# Altium integrated library Analog Devices Data Converters Analog-to-Digital Converters.IntLib: 2404 symbols (part 11 of 346)
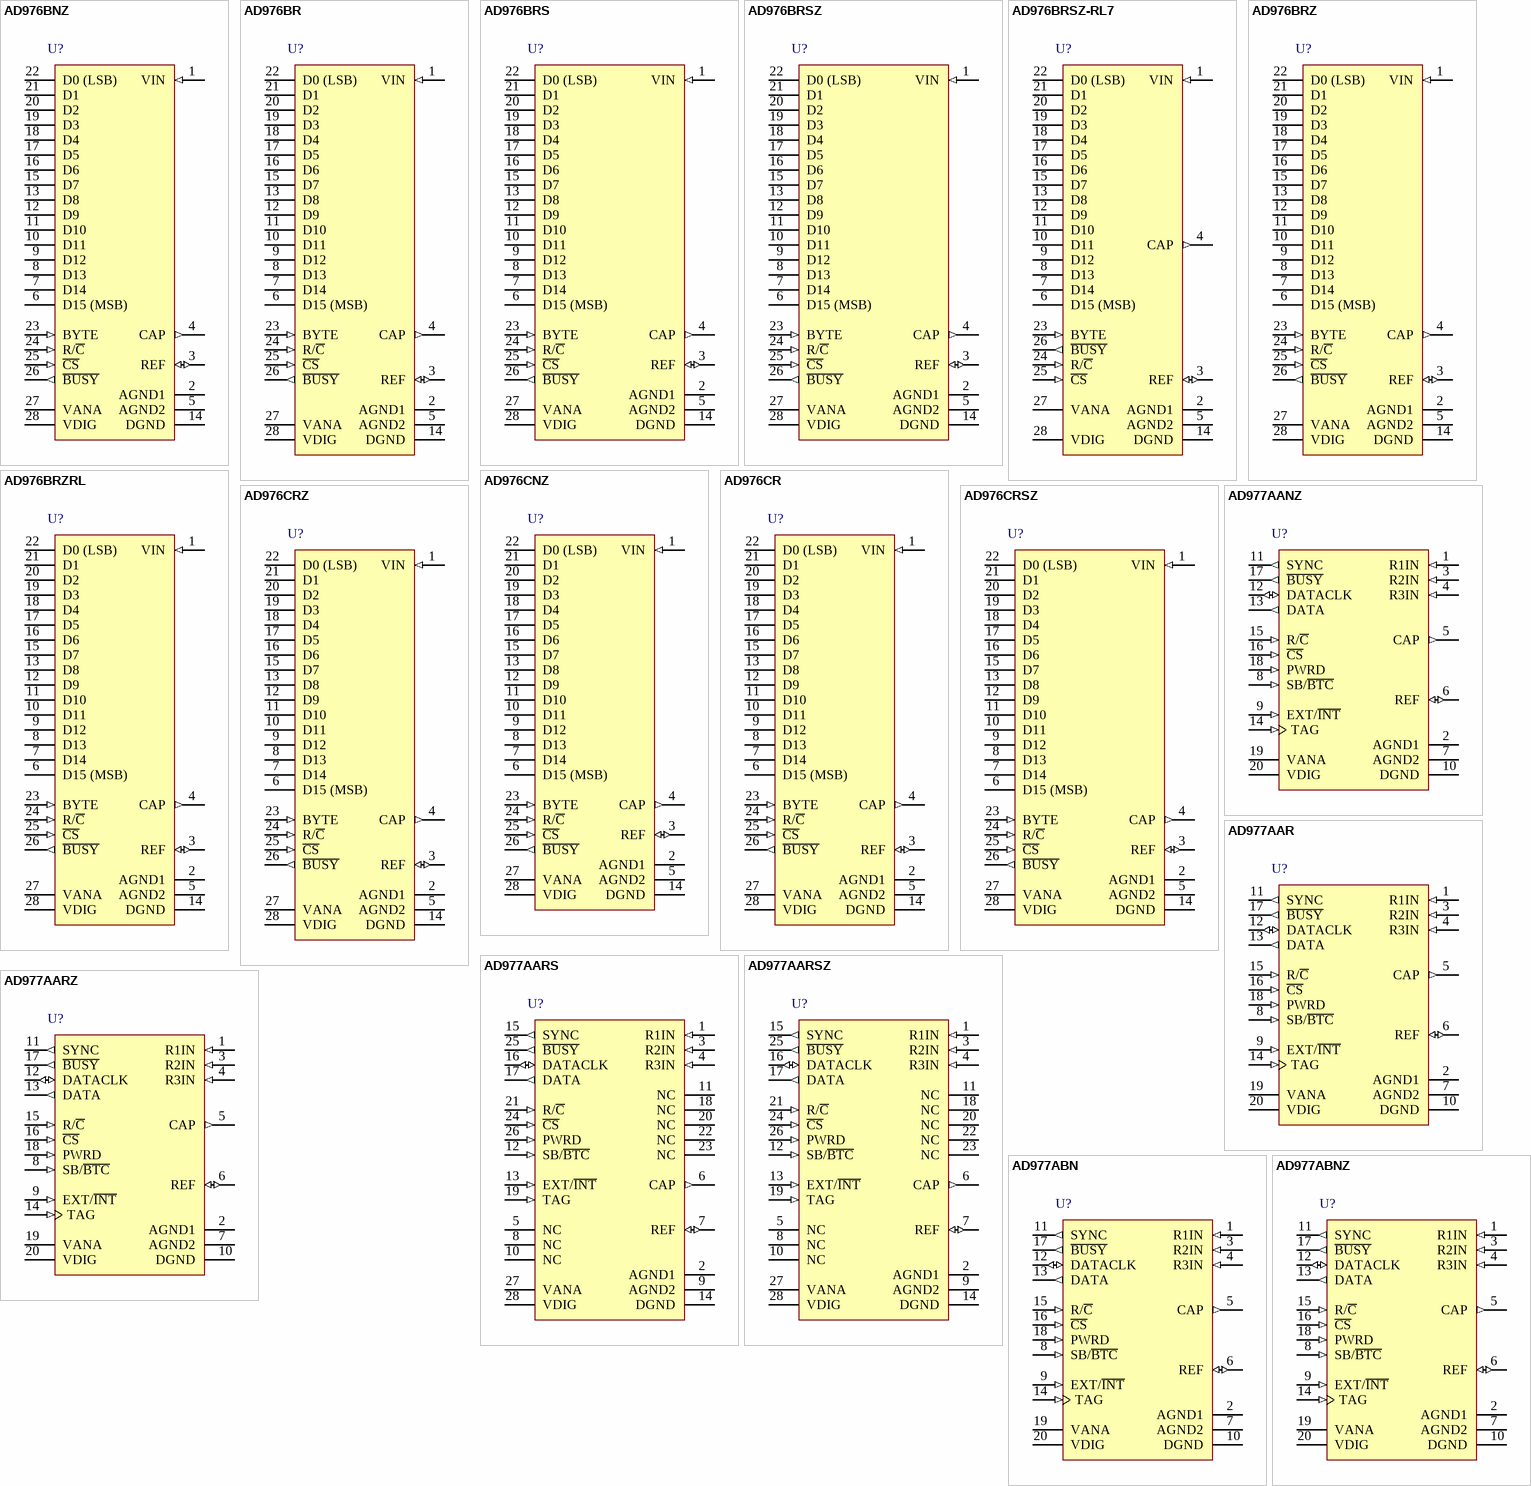
[diagram p161: symbols AD976BNZ to AD977ABNZ]

## AD976BRZ
designator U?
Single 16-Bit BiCMOS Analog-to-Digital Converter with Parallel Interface, CMOS, 100KSPS, -40 to +85 degC, RW-28, Pb-Free, Tube; Generic Part Number: AD976; Manufacturer: Analog Devices; PartNumber: AD976BRZ; Resolution (Bits): 16; Channels: 1; Throughput Rate (SPS): 100K; Interface: Par; DatasheetVersion: Rev.C; PackageVersion: 060706-A; PackageReference: RW-28; PackageDescription: 28-Lead Standard Small Outline Package [SOIC_W]; Supplier 1: Digi-Key; Supplier Part Number 1: AD976BRZ-ND; Supplier 2: Newark; Supplier Part Number 2: 59K7389; Supplier 3: Mouser; Supplier Part Number 3: 584-AD976BRZ; RoHS: Y; Packing: Tube; Mounting Technology: Surface Mount; Code_JEDEC: MS-013-AE; ComponentLink1Description: Manufacturer URL; ComponentLink1URL: http://www.analog.com/en/index.html; ComponentLink2Description: Datasheet; ComponentLink2URL: http://www.analog.com/static/imported-files/data_sheets/AD976_976A.pdf; ComponentLink3Description: Package Specification; ComponentLink3URL: http://www.analog.com/static/imported-files/packages/35833120341221RW_28.pdf; ComponentLink4Description: Product URL; ComponentLink4URL: http://www.analog.com/en/analog-to-digital-converters/ad-converters/ad976/products/product.html
footprint RW-28_N (SOIC, 28-Leads, Body 17.9x7.5mm, Pitch 1.27mm, IPC Medium Density)
footprint RW-28_L (SOIC, 28-Leads, Body 17.9x7.5mm, Pitch 1.27mm, IPC High Density)
footprint RW-28_M (SOIC, 28-Leads, Body 17.9x7.5mm, Pitch 1.27mm, IPC Low Density)
pins: 1 VIN (in) "Analog Input. Connect a 200 ohm resistor between VIN and the analog signal source. The full-scale input range is +/-10 V.", 2 AGND1 (power) "Analog Ground. Used as the ground reference point for the REF pin.", 3 REF (io) "Reference Input/Output. The internal +2.5 V reference is available at this pin. Alternatively, an external reference can be used to override the internal reference. In either case, connect a 2.2 uf tantalum capacitor between (See Datasheet)", 4 CAP (out) "Reference Buffer Output. Connect a 2.2 uF tantalum capacitor between CAP and AGND2.", 5 AGND2 (power) "Analog Ground.", 6 D15 (MSB) (hiz) "Data Bit 15. Most significant bit of conversion result. High impedance state when C\S\ is HIGH or when R/C\ is LOW.", 7 D14 (hiz) "Data Bits 14-8. High impedance state when C\S\ is HIGH or when R/C\ is LOW.", 8 D13 (hiz) "Data Bits 14-8. High impedance state when C\S\ is HIGH or when R/C\ is LOW.", 9 D12 (hiz) "Data Bits 14-8. High impedance state when C\S\ is HIGH or when R/C\ is LOW.", 10 D11 (hiz) "Data Bits 14-8. High impedance state when C\S\ is HIGH or when R/C\ is LOW.", 11 D10 (hiz) "Data Bits 14-8. High impedance state when C\S\ is HIGH or when R/C\ is LOW.", 12 D9 (hiz) "Data Bits 14-8. High impedance state when C\S\ is HIGH or when R/C\ is LOW.", 13 D8 (hiz) "Data Bits 14-8. High impedance state when C\S\ is HIGH or when R/C\ is LOW.", 14 DGND (power) "Digital Ground.", 15 D7 (hiz) "Data Bits 7-1. High impedance state when C\S\ is HIGH or when R/C\ is LOW.", 16 D6 (hiz) "Data Bits 7-1. High impedance state when C\S\ is HIGH or when R/C\ is LOW.", 17 D5 (hiz) "Data Bits 7-1. High impedance state when C\S\ is HIGH or when R/C\ is LOW.", 18 D4 (hiz) "Data Bits 7-1. High impedance state when C\S\ is HIGH or when R/C\ is LOW.", 19 D3 (hiz) "Data Bits 7-1. High impedance state when C\S\ is HIGH or when R/C\ is LOW.", 20 D2 (hiz) "Data Bits 7-1. High impedance state when C\S\ is HIGH or when R/C\ is LOW.", 21 D1 (hiz) "Data Bits 7-1. High impedance state when C\S\ is HIGH or when R/C\ is LOW.", 22 D0 (LSB) (hiz) "Data Bit 0. Least significant bit of conversion result. High impedance state when C\S\ is HIGH or when R/C\ is LOW.", 23 BYTE (in) "Byte Select. With BYTE LOW, data will be output as indicated above; Pin 6 (D15) is the MSB, Pin 22 (D0) is the LSB. With BYTE HIGH, the top and bottom 8 bits of data will be switched; D15-D8 are output on Pins 15-22 and (See Datasheet)", 24 R/~{C} (in) "Read/Convert Input. With C\S\ LOW, a falling edge on R/C\ puts the internal sample/hold into the hold state and starts a conversion; a rising edge enables the output data bits.", 25 ~{CS} (in) "Chip Select Input. Internally OR’d with R/C\. With R/C\ LOW, a falling edge on C\S\ will initiate a conversion. With R/C\ HIGH, a falling edge on C\S\ will enable the output data bits. When C\S\ is HIGH, the output data bits (See Datasheet)", 26 ~{BUSY} (out) "Busy Output. Goes LOW when a conversion is started and remains LOW until the conversion is completed and the data is latched into the output register. With C\S\ tied LOW and R/C\ HIGH, output data will be valid when B\U\S\Y\ (See Datasheet)", 27 VANA (power) "Analog Power Supply. Nominally +5 V.", 28 VDIG (power) "Digital Power Supply. Nominally +5 V."

## AD976BRZRL
designator U?
Single 16-Bit BiCMOS Analog-to-Digital Converter with Parallel Interface, CMOS, 100KSPS, -40 to +85 degC, RW-28, Pb-Free, Reel; Generic Part Number: AD976; Manufacturer: Analog Devices; PartNumber: AD976BRZRL; Resolution (Bits): 16; Channels: 1; Throughput Rate (SPS): 100K; Interface: Par; DatasheetVersion: Rev.C; PackageVersion: 060706-A; PackageReference: RW-28; PackageDescription: 28-Lead Standard Small Outline Package [SOIC_W]; Supplier 1: Digi-Key; Supplier Part Number 1: AD976BRZRL-ND; RoHS: Y; Packing: Reel; Mounting Technology: Surface Mount; Code_JEDEC: MS-013-AE; ComponentLink1Description: Manufacturer URL; ComponentLink1URL: http://www.analog.com/en/index.html; ComponentLink2Description: Datasheet; ComponentLink2URL: http://www.analog.com/static/imported-files/data_sheets/AD976_976A.pdf; ComponentLink3Description: Package Specification; ComponentLink3URL: http://www.analog.com/static/imported-files/packages/35833120341221RW_28.pdf; ComponentLink4Description: Product URL; ComponentLink4URL: http://www.analog.com/en/analog-to-digital-converters/ad-converters/ad976/products/product.html
footprint RW-28_N (SOIC, 28-Leads, Body 17.9x7.5mm, Pitch 1.27mm, IPC Medium Density)
footprint RW-28_L (SOIC, 28-Leads, Body 17.9x7.5mm, Pitch 1.27mm, IPC High Density)
footprint RW-28_M (SOIC, 28-Leads, Body 17.9x7.5mm, Pitch 1.27mm, IPC Low Density)
pins: 1 VIN (in) "Analog Input. Connect a 200 ohm resistor between VIN and the analog signal source. The full-scale input range is +/-10 V.", 2 AGND1 (power) "Analog Ground. Used as the ground reference point for the REF pin.", 3 REF (io) "Reference Input/Output. The internal +2.5 V reference is available at this pin. Alternatively, an external reference can be used to override the internal reference. In either case, connect a 2.2 uf tantalum capacitor between (See Datasheet)", 4 CAP (out) "Reference Buffer Output. Connect a 2.2 uF tantalum capacitor between CAP and AGND2.", 5 AGND2 (power) "Analog Ground.", 6 D15 (MSB) (hiz) "Data Bit 15. Most significant bit of conversion result. High impedance state when C\S\ is HIGH or when R/C\ is LOW.", 7 D14 (hiz) "Data Bits 14-8. High impedance state when C\S\ is HIGH or when R/C\ is LOW.", 8 D13 (hiz) "Data Bits 14-8. High impedance state when C\S\ is HIGH or when R/C\ is LOW.", 9 D12 (hiz) "Data Bits 14-8. High impedance state when C\S\ is HIGH or when R/C\ is LOW.", 10 D11 (hiz) "Data Bits 14-8. High impedance state when C\S\ is HIGH or when R/C\ is LOW.", 11 D10 (hiz) "Data Bits 14-8. High impedance state when C\S\ is HIGH or when R/C\ is LOW.", 12 D9 (hiz) "Data Bits 14-8. High impedance state when C\S\ is HIGH or when R/C\ is LOW.", 13 D8 (hiz) "Data Bits 14-8. High impedance state when C\S\ is HIGH or when R/C\ is LOW.", 14 DGND (power) "Digital Ground.", 15 D7 (hiz) "Data Bits 7-1. High impedance state when C\S\ is HIGH or when R/C\ is LOW.", 16 D6 (hiz) "Data Bits 7-1. High impedance state when C\S\ is HIGH or when R/C\ is LOW.", 17 D5 (hiz) "Data Bits 7-1. High impedance state when C\S\ is HIGH or when R/C\ is LOW.", 18 D4 (hiz) "Data Bits 7-1. High impedance state when C\S\ is HIGH or when R/C\ is LOW.", 19 D3 (hiz) "Data Bits 7-1. High impedance state when C\S\ is HIGH or when R/C\ is LOW.", 20 D2 (hiz) "Data Bits 7-1. High impedance state when C\S\ is HIGH or when R/C\ is LOW.", 21 D1 (hiz) "Data Bits 7-1. High impedance state when C\S\ is HIGH or when R/C\ is LOW.", 22 D0 (LSB) (hiz) "Data Bit 0. Least significant bit of conversion result. High impedance state when C\S\ is HIGH or when R/C\ is LOW.", 23 BYTE (in) "Byte Select. With BYTE LOW, data will be output as indicated above; Pin 6 (D15) is the MSB, Pin 22 (D0) is the LSB. With BYTE HIGH, the top and bottom 8 bits of data will be switched; D15-D8 are output on Pins 15-22 and (See Datasheet)", 24 R/~{C} (in) "Read/Convert Input. With C\S\ LOW, a falling edge on R/C\ puts the internal sample/hold into the hold state and starts a conversion; a rising edge enables the output data bits.", 25 ~{CS} (in) "Chip Select Input. Internally OR’d with R/C\. With R/C\ LOW, a falling edge on C\S\ will initiate a conversion. With R/C\ HIGH, a falling edge on C\S\ will enable the output data bits. When C\S\ is HIGH, the output data bits (See Datasheet)", 26 ~{BUSY} (out) "Busy Output. Goes LOW when a conversion is started and remains LOW until the conversion is completed and the data is latched into the output register. With C\S\ tied LOW and R/C\ HIGH, output data will be valid when B\U\S\Y\ (See Datasheet)", 27 VANA (power) "Analog Power Supply. Nominally +5 V.", 28 VDIG (power) "Digital Power Supply. Nominally +5 V."

## AD976CNZ
designator U?
Single 16-Bit BiCMOS Analog-to-Digital Converter with Parallel Interface, CMOS, 100KSPS, -40 to +85 degC, N-28-1, Pb-Free, Tube; Generic Part Number: AD976; Manufacturer: Analog Devices; PartNumber: AD976CNZ; Resolution (Bits): 16; Channels: 1; Throughput Rate (SPS): 100K; Interface: Par; DatasheetVersion: Rev.C; PackageVersion: 071106-A; PackageReference: N-28-1; PackageDescription: 28-Lead Plastic Dual In-Line Package [PDIP]; Supplier 1: Digi-Key; Supplier Part Number 1: AD976CNZ-ND; Supplier 2: Newark; Supplier Part Number 2: 59K7391; Supplier 3: Mouser; Supplier Part Number 3: 584-AD976CNZ; RoHS: Y; Packing: Tube; Mounting Technology: Through-hole; Code_JEDEC: MO-095; ComponentLink1Description: Manufacturer URL; ComponentLink1URL: http://www.analog.com/en/index.html; ComponentLink2Description: Datasheet; ComponentLink2URL: http://www.analog.com/static/imported-files/data_sheets/AD976_976A.pdf; ComponentLink3Description: Package Specification; ComponentLink3URL: http://www.analog.com/static/imported-files/packages/70961940N_28_1.pdf; ComponentLink4Description: Product URL; ComponentLink4URL: http://www.analog.com/en/analog-to-digital-converters/ad-converters/ad976/products/product.html
footprint N-28-1 (DIP, 28-Leads, Row Spacing 7.62mm, Pitch 2.54mm, Body 34.7x7.2mm)
pins: 1 VIN (in) "Analog Input. Connect a 200 ohm resistor between VIN and the analog signal source. The full-scale input range is +/-10 V.", 2 AGND1 (power) "Analog Ground. Used as the ground reference point for the REF pin.", 3 REF (io) "Reference Input/Output. The internal +2.5 V reference is available at this pin. Alternatively, an external reference can be used to override the internal reference. In either case, connect a 2.2 uf tantalum capacitor between (See Datasheet)", 4 CAP (out) "Reference Buffer Output. Connect a 2.2 uF tantalum capacitor between CAP and AGND2.", 5 AGND2 (power) "Analog Ground.", 6 D15 (MSB) (hiz) "Data Bit 15. Most significant bit of conversion result. High impedance state when C\S\ is HIGH or when R/C\ is LOW.", 7 D14 (hiz) "Data Bits 14. High impedance state when C\S\ is HIGH or when R/C\ is LOW.", 8 D13 (hiz) "Data Bits 13. High impedance state when C\S\ is HIGH or when R/C\ is LOW.", 9 D12 (hiz) "Data Bits 12. High impedance state when C\S\ is HIGH or when R/C\ is LOW.", 10 D11 (hiz) "Data Bits 11. High impedance state when C\S\ is HIGH or when R/C\ is LOW.", 11 D10 (hiz) "Data Bits 10. High impedance state when C\S\ is HIGH or when R/C\ is LOW.", 12 D9 (hiz) "Data Bits 9. High impedance state when C\S\ is HIGH or when R/C\ is LOW.", 13 D8 (hiz) "Data Bits 8. High impedance state when C\S\ is HIGH or when R/C\ is LOW.", 14 DGND (power) "Digital Ground.", 15 D7 (hiz) "Data Bits 7. High impedance state when C\S\ is HIGH or when R/C\ is LOW.", 16 D6 (hiz) "Data Bits 6. High impedance state when C\S\ is HIGH or when R/C\ is LOW.", 17 D5 (hiz) "Data Bits 5. High impedance state when C\S\ is HIGH or when R/C\ is LOW.", 18 D4 (hiz) "Data Bits 4. High impedance state when C\S\ is HIGH or when R/C\ is LOW.", 19 D3 (hiz) "Data Bits 3. High impedance state when C\S\ is HIGH or when R/C\ is LOW.", 20 D2 (hiz) "Data Bits 2. High impedance state when C\S\ is HIGH or when R/C\ is LOW.", 21 D1 (hiz) "Data Bits 1. High impedance state when C\S\ is HIGH or when R/C\ is LOW.", 22 D0 (LSB) (hiz) "Data Bit 0. Least significant bit of conversion result. High impedance state when C\S\ is HIGH or when R/C\ is LOW.", 23 BYTE (in) "Byte Select. With BYTE LOW, data will be output as indicated above; Pin 6 (D15) is the MSB, Pin 22 (D0) is the LSB. With BYTE HIGH, the top and bottom 8 bits of data will be switched; D15-D8 are output on Pins 15-22 and (See Datasheet)", 24 R/~{C} (in) "Read/Convert Input. With C\S\ LOW, a falling edge on R/C\ puts the internal sample/hold into the hold state and starts a conversion; a rising edge enables the output data bits.", 25 ~{CS} (in) "Chip Select Input. Internally OR’d with R/C\. With R/C\ LOW, a falling edge on C\S\ will initiate a conversion. With R/C\ HIGH, a falling edge on C\S\ will enable the output data bits. When C\S\ is HIGH, the output data bits (See Datasheet)", 26 ~{BUSY} (out) "Busy Output. Goes LOW when a conversion is started and remains LOW until the conversion is completed and the data is latched into the output register. With C\S\ tied LOW and R/C\ HIGH, output data will be valid when B\U\S\Y\ (See Datasheet)", 27 VANA (power) "Analog Power Supply. Nominally +5 V.", 28 VDIG (power) "Digital Power Supply. Nominally +5 V."

## AD976CR
designator U?
Single 16-Bit BiCMOS Analog-to-Digital Converter with Parallel Interface, CMOS, 100KSPS, -40 to +85 degC, RW-28, Tube; Generic Part Number: AD976; Manufacturer: Analog Devices; PartNumber: AD976CR; Resolution (Bits): 16; Channels: 1; Throughput Rate (SPS): 100K; Interface: Par; DatasheetVersion: Rev.C; PackageVersion: 060706-A; PackageReference: RW-28; PackageDescription: 28-Lead Standard Small Outline Package [SOIC_W]; Supplier 1: Digi-Key; Supplier Part Number 1: AD976CR-ND; Supplier 2: Mouser; Supplier Part Number 2: 584-AD976CR; RoHS: N; Packing: Tube; Mounting Technology: Surface Mount; Code_JEDEC: MS-013-AE; ComponentLink1Description: Manufacturer URL; ComponentLink1URL: http://www.analog.com/en/index.html; ComponentLink2Description: Datasheet; ComponentLink2URL: http://www.analog.com/static/imported-files/data_sheets/AD976_976A.pdf; ComponentLink3Description: Package Specification; ComponentLink3URL: http://www.analog.com/static/imported-files/packages/35833120341221RW_28.pdf; ComponentLink4Description: Product URL; ComponentLink4URL: http://www.analog.com/en/analog-to-digital-converters/ad-converters/ad976/products/product.html
footprint RW-28_N (SOIC, 28-Leads, Body 17.9x7.5mm, Pitch 1.27mm, IPC Medium Density)
footprint RW-28_L (SOIC, 28-Leads, Body 17.9x7.5mm, Pitch 1.27mm, IPC High Density)
footprint RW-28_M (SOIC, 28-Leads, Body 17.9x7.5mm, Pitch 1.27mm, IPC Low Density)
pins: 1 VIN (in) "Analog Input. Connect a 200 ohm resistor between VIN and the analog signal source. The full-scale input range is +/-10 V.", 2 AGND1 (power) "Analog Ground. Used as the ground reference point for the REF pin.", 3 REF (io) "Reference Input/Output. The internal +2.5 V reference is available at this pin. Alternatively, an external reference can be used to override the internal reference. In either case, connect a 2.2 uf tantalum capacitor between (See Datasheet)", 4 CAP (out) "Reference Buffer Output. Connect a 2.2 uF tantalum capacitor between CAP and AGND2.", 5 AGND2 (power) "Analog Ground.", 6 D15 (MSB) (hiz) "Data Bit 15. Most significant bit of conversion result. High impedance state when C\S\ is HIGH or when R/C\ is LOW.", 7 D14 (hiz) "Data Bits 14-8. High impedance state when C\S\ is HIGH or when R/C\ is LOW.", 8 D13 (hiz) "Data Bits 14-8. High impedance state when C\S\ is HIGH or when R/C\ is LOW.", 9 D12 (hiz) "Data Bits 14-8. High impedance state when C\S\ is HIGH or when R/C\ is LOW.", 10 D11 (hiz) "Data Bits 14-8. High impedance state when C\S\ is HIGH or when R/C\ is LOW.", 11 D10 (hiz) "Data Bits 14-8. High impedance state when C\S\ is HIGH or when R/C\ is LOW.", 12 D9 (hiz) "Data Bits 14-8. High impedance state when C\S\ is HIGH or when R/C\ is LOW.", 13 D8 (hiz) "Data Bits 14-8. High impedance state when C\S\ is HIGH or when R/C\ is LOW.", 14 DGND (power) "Digital Ground.", 15 D7 (hiz) "Data Bits 7-1. High impedance state when C\S\ is HIGH or when R/C\ is LOW.", 16 D6 (hiz) "Data Bits 7-1. High impedance state when C\S\ is HIGH or when R/C\ is LOW.", 17 D5 (hiz) "Data Bits 7-1. High impedance state when C\S\ is HIGH or when R/C\ is LOW.", 18 D4 (hiz) "Data Bits 7-1. High impedance state when C\S\ is HIGH or when R/C\ is LOW.", 19 D3 (hiz) "Data Bits 7-1. High impedance state when C\S\ is HIGH or when R/C\ is LOW.", 20 D2 (hiz) "Data Bits 7-1. High impedance state when C\S\ is HIGH or when R/C\ is LOW.", 21 D1 (hiz) "Data Bits 7-1. High impedance state when C\S\ is HIGH or when R/C\ is LOW.", 22 D0 (LSB) (hiz) "Data Bit 0. Least significant bit of conversion result. High impedance state when C\S\ is HIGH or when R/C\ is LOW.", 23 BYTE (in) "Byte Select. With BYTE LOW, data will be output as indicated above; Pin 6 (D15) is the MSB, Pin 22 (D0) is the LSB. With BYTE HIGH, the top and bottom 8 bits of data will be switched; D15-D8 are output on Pins 15-22 and (See Datasheet)", 24 R/~{C} (in) "Read/Convert Input. With C\S\ LOW, a falling edge on R/C\ puts the internal sample/hold into the hold state and starts a conversion; a rising edge enables the output data bits.", 25 ~{CS} (in) "Chip Select Input. Internally OR’d with R/C\. With R/C\ LOW, a falling edge on C\S\ will initiate a conversion. With R/C\ HIGH, a falling edge on C\S\ will enable the output data bits. When C\S\ is HIGH, the output data bits (See Datasheet)", 26 ~{BUSY} (out) "Busy Output. Goes LOW when a conversion is started and remains LOW until the conversion is completed and the data is latched into the output register. With C\S\ tied LOW and R/C\ HIGH, output data will be valid when B\U\S\Y\ (See Datasheet)", 27 VANA (power) "Analog Power Supply. Nominally +5 V.", 28 VDIG (power) "Digital Power Supply. Nominally +5 V."

## AD976CRSZ
designator U?
Single 16-Bit BiCMOS Analog-to-Digital Converter with Parallel Interface, CMOS, 100KSPS, -40 to +85 degC, RS-28, Pb-Free, Tube; Generic Part Number: AD976; Manufacturer: Analog Devices; PartNumber: AD976CRSZ; Resolution (Bits): 16; Channels: 1; Throughput Rate (SPS): 100K; Interface: Par; DatasheetVersion: Rev.C; PackageVersion: 060106-A; PackageReference: RS-28; PackageDescription: 28-Lead Shrink Small Outline Package [SSOP]; Supplier 1: Digi-Key; Supplier Part Number 1: AD976CRSZ-ND; Supplier 2: Mouser; Supplier Part Number 2: 584-AD976CRSZ; RoHS: Y; Packing: Tube; Mounting Technology: Surface Mount; Code_JEDEC: MO-150-AH; ComponentLink1Description: Manufacturer URL; ComponentLink1URL: http://www.analog.com/en/index.html; ComponentLink2Description: Datasheet; ComponentLink2URL: http://www.analog.com/static/imported-files/data_sheets/AD976_976A.pdf; ComponentLink3Description: Package Specification; ComponentLink3URL: http://www.analog.com/static/imported-files/packages/32122249223724RS_28.pdf; ComponentLink4Description: Product URL; ComponentLink4URL: http://www.analog.com/en/analog-to-digital-converters/ad-converters/ad976/products/product.html
footprint RS-28_N (SOP, 28-Leads, Body 10.2x5.3mm, Pitch 0.65mm, IPC Medium Density)
footprint RS-28_L (SOP, 28-Leads, Body 10.2x5.3mm, Pitch 0.65mm, IPC High Density)
footprint RS-28_M (SOP, 28-Leads, Body 10.2x5.3mm, Pitch 0.65mm, IPC Low Density)
pins: 1 VIN (in) "Analog Input. Connect a 200 ohm resistor between VIN and the analog signal source. The full-scale input range is +/-10 V.", 2 AGND1 (power) "Analog Ground. Used as the ground reference point for the REF pin.", 3 REF (io) "Reference Input/Output. The internal +2.5 V reference is available at this pin. Alternatively, an external reference can be used to override the internal reference. In either case, connect a 2.2 uF tantalum capacitor between (See Datasheet)", 4 CAP (out) "Reference Buffer Output. Connect a 2.2 uF tantalum capacitor between CAP and AGND2.", 5 AGND2 (power) "Analog Ground.", 6 D15 (MSB) (hiz) "Data Bit 15. Most significant bit of conversion result. High impedance state when C\S\ is HIGH or when R/C\ is LOW.", 7 D14 (hiz) "Data Bits 14. High impedance state when C\S\ is HIGH or when R/C\ is LOW.", 8 D13 (hiz) "Data Bits 13. High impedance state when C\S\ is HIGH or when R/C\ is LOW.", 9 D12 (hiz) "Data Bits 12. High impedance state when C\S\ is HIGH or when R/C\ is LOW.", 10 D11 (hiz) "Data Bits 11. High impedance state when C\S\ is HIGH or when R/C\ is LOW.", 11 D10 (hiz) "Data Bits 10. High impedance state when C\S\ is HIGH or when R/C\ is LOW.", 12 D9 (hiz) "Data Bits 9. High impedance state when C\S\ is HIGH or when R/C\ is LOW.", 13 D8 (hiz) "Data Bits 8. High impedance state when C\S\ is HIGH or when R/C\ is LOW.", 14 DGND (power) "Digital Ground.", 15 D7 (hiz) "Data Bits 7. High impedance state when C\S\ is HIGH or when R/C\ is LOW.", 16 D6 (hiz) "Data Bits 6. High impedance state when C\S\ is HIGH or when R/C\ is LOW.", 17 D5 (hiz) "Data Bits 5. High impedance state when C\S\ is HIGH or when R/C\ is LOW.", 18 D4 (hiz) "Data Bits 4. High impedance state when C\S\ is HIGH or when R/C\ is LOW.", 19 D3 (hiz) "Data Bits 3. High impedance state when C\S\ is HIGH or when R/C\ is LOW.", 20 D2 (hiz) "Data Bits 2. High impedance state when C\S\ is HIGH or when R/C\ is LOW.", 21 D1 (hiz) "Data Bits 1. High impedance state when C\S\ is HIGH or when R/C\ is LOW.", 22 D0 (LSB) (hiz) "Data Bit 0. Least significant bit of conversion result. High impedance state when C\S\ is HIGH or when R/C\ is LOW.", 23 BYTE (in) "Byte Select. With BYTE LOW, data will be output as indicated above; Pin 6 (D15) is the MSB, Pin 22 (D0) is the LSB. With BYTE HIGH, the top and bottom 8 bits of data will be switched; D15-D8 are output on Pins 15-22 and (See Datasheet)", 24 R/~{C} (in) "Read/Convert Input. With C\S\ LOW, a falling edge on R/C\ puts the internal sample/hold into the hold state and starts a conversion; a rising edge enables the output data bits.", 25 ~{CS} (in) "Chip Select Input. Internally OR'd with R/C\. With R/C\ LOW, a falling edge on C\S\ will initiate a conversion. With R/C\ HIGH, a falling edge on C\S\ will enable the output data bits. When C\S\ is HIGH, the output data bits (See Datasheet)", 26 ~{BUSY} (out) "Busy Output. Goes LOW when a conversion is started and remains LOW until the conversion is completed and the data is latched into the output register. With C\S\ tied LOW and R/C\ HIGH, output data will be valid when B\U\S\Y\ (See Datasheet)", 27 VANA (power) "Analog Power Supply. Nominally +5 V.", 28 VDIG (power) "Digital Power Supply. Nominally +5 V."

## AD976CRZ
designator U?
Single 16-Bit BiCMOS Analog-to-Digital Converter with Parallel Interface, CMOS, 100KSPS, -40 to +85 degC, RW-28, Pb-Free, Tube; Generic Part Number: AD976; Manufacturer: Analog Devices; PartNumber: AD976CRZ; Resolution (Bits): 16; Channels: 1; Throughput Rate (SPS): 100K; Interface: Par; DatasheetVersion: Rev.C; PackageVersion: 060706-A; PackageReference: RW-28; PackageDescription: 28-Lead Standard Small Outline Package [SOIC_W]; Supplier 1: Digi-Key; Supplier Part Number 1: AD976CRZ-ND; Supplier 2: Mouser; Supplier Part Number 2: 584-AD976CRZ; RoHS: Y; Packing: Tube; Mounting Technology: Surface Mount; Code_JEDEC: MS-013-AE; ComponentLink1Description: Manufacturer URL; ComponentLink1URL: http://www.analog.com/en/index.html; ComponentLink2Description: Datasheet; ComponentLink2URL: http://www.analog.com/static/imported-files/data_sheets/AD976_976A.pdf; ComponentLink3Description: Package Specification; ComponentLink3URL: http://www.analog.com/static/imported-files/packages/35833120341221RW_28.pdf; ComponentLink4Description: Product URL; ComponentLink4URL: http://www.analog.com/en/analog-to-digital-converters/ad-converters/ad976/products/product.html
footprint RW-28_N (SOIC, 28-Leads, Body 17.9x7.5mm, Pitch 1.27mm, IPC Medium Density)
footprint RW-28_L (SOIC, 28-Leads, Body 17.9x7.5mm, Pitch 1.27mm, IPC High Density)
footprint RW-28_M (SOIC, 28-Leads, Body 17.9x7.5mm, Pitch 1.27mm, IPC Low Density)
pins: 1 VIN (in) "Analog Input. Connect a 200 ohm resistor between VIN and the analog signal source. The full-scale input range is +/-10 V.", 2 AGND1 (power) "Analog Ground. Used as the ground reference point for the REF pin.", 3 REF (io) "Reference Input/Output. The internal +2.5 V reference is available at this pin. Alternatively, an external reference can be used to override the internal reference. In either case, connect a 2.2 uf tantalum capacitor between (See Datasheet)", 4 CAP (out) "Reference Buffer Output. Connect a 2.2 uF tantalum capacitor between CAP and AGND2.", 5 AGND2 (power) "Analog Ground.", 6 D15 (MSB) (hiz) "Data Bit 15. Most significant bit of conversion result. High impedance state when C\S\ is HIGH or when R/C\ is LOW.", 7 D14 (hiz) "Data Bits 14-8. High impedance state when C\S\ is HIGH or when R/C\ is LOW.", 8 D13 (hiz) "Data Bits 14-8. High impedance state when C\S\ is HIGH or when R/C\ is LOW.", 9 D12 (hiz) "Data Bits 14-8. High impedance state when C\S\ is HIGH or when R/C\ is LOW.", 10 D11 (hiz) "Data Bits 14-8. High impedance state when C\S\ is HIGH or when R/C\ is LOW.", 11 D10 (hiz) "Data Bits 14-8. High impedance state when C\S\ is HIGH or when R/C\ is LOW.", 12 D9 (hiz) "Data Bits 14-8. High impedance state when C\S\ is HIGH or when R/C\ is LOW.", 13 D8 (hiz) "Data Bits 14-8. High impedance state when C\S\ is HIGH or when R/C\ is LOW.", 14 DGND (power) "Digital Ground.", 15 D7 (hiz) "Data Bits 7-1. High impedance state when C\S\ is HIGH or when R/C\ is LOW.", 16 D6 (hiz) "Data Bits 7-1. High impedance state when C\S\ is HIGH or when R/C\ is LOW.", 17 D5 (hiz) "Data Bits 7-1. High impedance state when C\S\ is HIGH or when R/C\ is LOW.", 18 D4 (hiz) "Data Bits 7-1. High impedance state when C\S\ is HIGH or when R/C\ is LOW.", 19 D3 (hiz) "Data Bits 7-1. High impedance state when C\S\ is HIGH or when R/C\ is LOW.", 20 D2 (hiz) "Data Bits 7-1. High impedance state when C\S\ is HIGH or when R/C\ is LOW.", 21 D1 (hiz) "Data Bits 7-1. High impedance state when C\S\ is HIGH or when R/C\ is LOW.", 22 D0 (LSB) (hiz) "Data Bit 0. Least significant bit of conversion result. High impedance state when C\S\ is HIGH or when R/C\ is LOW.", 23 BYTE (in) "Byte Select. With BYTE LOW, data will be output as indicated above; Pin 6 (D15) is the MSB, Pin 22 (D0) is the LSB. With BYTE HIGH, the top and bottom 8 bits of data will be switched; D15-D8 are output on Pins 15-22 and (See Datasheet)", 24 R/~{C} (in) "Read/Convert Input. With C\S\ LOW, a falling edge on R/C\ puts the internal sample/hold into the hold state and starts a conversion; a rising edge enables the output data bits.", 25 ~{CS} (in) "Chip Select Input. Internally OR’d with R/C\. With R/C\ LOW, a falling edge on C\S\ will initiate a conversion. With R/C\ HIGH, a falling edge on C\S\ will enable the output data bits. When C\S\ is HIGH, the output data bits (See Datasheet)", 26 ~{BUSY} (out) "Busy Output. Goes LOW when a conversion is started and remains LOW until the conversion is completed and the data is latched into the output register. With C\S\ tied LOW and R/C\ HIGH, output data will be valid when B\U\S\Y\ (See Datasheet)", 27 VANA (power) "Analog Power Supply. Nominally +5 V.", 28 VDIG (power) "Digital Power Supply. Nominally +5 V."

## AD977AANZ
designator U?
Single 16-Bit BiCMOS Analog-to-Digital Converter with Serial Interface, 200KSPS, -40 to +85 degC, N-20, Pb-Free, Tube; Generic Part Number: AD977A; Manufacturer: Analog Devices; PartNumber: AD977AANZ; Resolution (Bits): 16; Channels: 1; Throughput Rate (SPS): 200K; Interface: Ser; DatasheetVersion: Rev.D; PackageVersion: 070706-A; PackageReference: N-20; PackageDescription: 20-Lead Plastic Dual In-Line Package [PDIP] Narrow Body; Supplier 1: Digi-Key; Supplier Part Number 1: AD977AANZ-ND; Supplier 2: Farnell; Supplier Part Number 2: 1079310; Supplier 3: Mouser; Supplier Part Number 3: 584-AD977AANZ; RoHS: Y; Packing: Tube; Mounting Technology: Through-hole; Code_JEDEC: MS-001; ComponentLink1Description: Manufacturer URL; ComponentLink1URL: http://www.analog.com/en/index.html; ComponentLink2Description: Datasheet; ComponentLink2URL: http://www.analog.com/static/imported-files/data_sheets/AD977_977A.pdf; ComponentLink3Description: Package Specification; ComponentLink3URL: http://www.analog.com/static/imported-files/packages/50601349676519N_20.pdf; ComponentLink4Description: Product URL; ComponentLink4URL: http://www.analog.com/en/analog-to-digital-converters/ad-converters/ad977a/products/product.html
footprint N-20 (DIP, 20-Leads, Row Spacing 7.62mm, Pitch 2.54mm, Body 25.9x6.6mm)
pins: 1 R1IN (in) "Analog Input. Refer to Table I, Table II for input range configuration.", 2 AGND1 (power) "Analog Ground. Used as the ground reference point for the REF pin.", 3 R2IN (in) "Analog Input. Refer to Table I, Table II for input range configuration.", 4 R3IN (in) "Analog Input. Refer to Table I, Table II for input range configuration.", 5 CAP (out) "Reference buffer output. Connect a 2.2 uF tantalum capacitor between CAP and Analog Ground.", 6 REF (io) "Reference Input/Output. The internal 2.5 V reference is available at this pin.Alternatively an external reference can be used to override the internal reference. In either case, connect a 2.2 uF tantalum capacitor between (See Datasheet)", 7 AGND2 (power) "Analog Ground.", 8 SB/~{BTC} (in) "This digital input is used to select the data format of a conversion result. With SB/B\T\C\ tied LOW, conversion data will be output in Binary Two's Complement format. With SB/B\T\C\ connected to a logic HIGH, data is output in (See Datasheet)", 9 EXT/~{INT} (in) "Digital select input for choosing the internal or an external data clock. With EXT/I\N\T\ tied LOW, after initiating a conversion, 16 DATACLK pulses transmit the previous conversion result as shown in Figure 3. With EXT/I\N\T\ set (See Datasheet)", 10 DGND (power) "Digital Ground.", 11 SYNC (out) "Digital output frame synchronization for use with an external data clock(EXT/I\N\T\ = Logic HIGH). When a read sequence is initiated, a pulse one DATACLK period wide is output synchronous to the external data clock.", 12 DATACLK (io) "Serial data clock input or output, dependent upon the logic state of the EXT/I\N\T\ pin. When using the internal data clock (EXT/I\N\T\ = Logic LOW), a conversion start sequence will initiate transmission of 16 DATACLK periods. (See Datasheet)", 13 DATA (out) "The serial data output is synchronized to DATACLK. Conversion results are stored in an on-chip register. The AD977 provides the conversion result, MSB first, from its internal shift register. The DATA format is determined by (See Datasheet)", 14 TAG (in) "This digital input can be used with an external data clock, (EXT/I\N\T\ = Logic HIGH) to daisy chain the conversion results from two or more AD977s onto a single DATA line. The digital data level on TAG is output on DATA with a (See Datasheet)", 15 R/~{C} (in) "Read/Convert Input. Is used to control the conversion and read modes of the AD977. With C\S\ LOW; a falling edge on R/C holds the analog input signal internally and starts a conversion, a rising edge enables the transmission (See Datasheet)", 16 ~{CS} (in) "Chip Select Input. With R/C LOW, a falling edge on CS will initiate a conversion.With R/C HIGH, a falling edge on CS will enable the serial data output sequence.", 17 ~{BUSY} (out) "Busy Output. Goes LOW when a conversion is started, and remains LOW until the conversion is completed and the data is latched into the on-chip shift register.", 18 PWRD (in) "Power-Down Input. When set to a logic HIGH power consumption is reduced and conversions are inhibited. The conversion result from the previous conversion is stored in the onboard shift register.", 19 VANA (power) "Analog Power Supply. Nominally 5 V.", 20 VDIG (power) "Digital Power Supply. Nominally 5 V."

## AD977AAR
designator U?
Single 16-Bit BiCMOS Analog-to-Digital Converter with Serial Interface, 200KSPS, -40 to +85 degC, RW-20, Tube; Generic Part Number: AD977A; Manufacturer: Analog Devices; PartNumber: AD977AAR; Resolution (Bits): 16; Channels: 1; Throughput Rate (SPS): 200K; Interface: Ser; DatasheetVersion: Rev.D; PackageVersion: 060706-A; PackageReference: RW-20; PackageDescription: 20-Lead Standard Small Outline Package [SOIC_W] Wide Body; Supplier 1: Digi-Key; Supplier Part Number 1: AD977AAR-ND; Supplier 2: Mouser; Supplier Part Number 2: 584-AD977AAR; RoHS: N; Packing: Tube; Mounting Technology: Surface Mount; Code_JEDEC: MS-013-AC; ComponentLink1Description: Manufacturer URL; ComponentLink1URL: http://www.analog.com/en/index.html; ComponentLink2Description: Datasheet; ComponentLink2URL: http://www.analog.com/static/imported-files/data_sheets/AD977_977A.pdf; ComponentLink3Description: Package Specification; ComponentLink3URL: http://www.analog.com/static/imported-files/packages/233848RW_20.pdf; ComponentLink4Description: Product URL; ComponentLink4URL: http://www.analog.com/en/analog-to-digital-converters/ad-converters/ad977a/products/product.html
footprint RW-20_N (SOIC, 20-Leads, Body 12.8x7.5mm, Pitch 1.27mm, IPC Medium Density)
footprint RW-20_L (SOIC, 20-Leads, Body 12.8x7.5mm, Pitch 1.27mm, IPC High Density)
footprint RW-20_M (SOIC, 20-Leads, Body 12.8x7.5mm, Pitch 1.27mm, IPC Low Density)
pins: 1 R1IN (in) "Analog Input. Refer to Table I, Table II for input range configuration.", 2 AGND1 (power) "Analog Ground. Used as the ground reference point for the REF pin.", 3 R2IN (in) "Analog Input. Refer to Table I, Table II for input range configuration.", 4 R3IN (in) "Analog Input. Refer to Table I, Table II for input range configuration.", 5 CAP (out) "Reference buffer output. Connect a 2.2 uF tantalum capacitor between CAP and Analog Ground.", 6 REF (io) "Reference Input/Output. The internal 2.5 V reference is available at this pin.Alternatively an external reference can be used to override the internal reference. In either case, connect a 2.2 uF tantalum capacitor between (See Datasheet)", 7 AGND2 (power) "Analog Ground.", 8 SB/~{BTC} (in) "This digital input is used to select the data format of a conversion result. With SB/B\T\C\ tied LOW, conversion data will be output in Binary Two’s Complement format. With SB/B\T\C\  connected to a logic HIGH, data is (See Datasheet)", 9 EXT/~{INT} (in) "Digital select input for choosing the internal or an external data clock. With EXT/I\N\T\ tied LOW, after initiating a conversion, 16 DATACLK pulses transmit the previous conversion result as shown in Figure 3. With EXT/INT (See Datasheet)", 10 DGND (power) "Digital Ground.", 11 SYNC (out) "Digital output frame synchronization for use with an external data clock (EXT/I\N\T\ = Logic HIGH). When a read sequence is initiated, a pulse one DATACLK period wide is output synchronous to the external data clock.", 12 DATACLK (io) "Serial data clock input or output, dependent upon the logic state of the EXT/I\N\T\ pin. When using the internal data clock (EXT/I\N\T\ = Logic LOW), a conversion start sequence will initiate transmission of 16 DATACLK (See Datasheet)", 13 DATA (out) "The serial data output is synchronized to DATACLK. Conversion results are stored in an on-chip register. The AD977 provides the conversion result, MSB first, from its internal shift register. The DATA format is determined by (See Datasheet)", 14 TAG (in) "This digital input can be used with an external data clock, (EXT/I\N\T\ = Logic HIGH) to daisy chain the conversion results from two or more AD977s onto a single DATA line. The digital data level on TAG is output on DATA (See Datasheet)", 15 R/~{C} (in) "Read/Convert Input. Is used to control the conversion and read modes of the AD977. With C\S\ LOW; a falling edge on R/C\ holds the analog input signal internally and starts a conversion, a rising edge enables the (See Datasheet)", 16 ~{CS} (in) "Chip Select Input. With R/C\ LOW, a falling edge on C\S\ will initiate a conversion.With R/C\ HIGH, a falling edge on C\S\ will enable the serial data output sequence.", 17 ~{BUSY} (out) "Busy Output. Goes LOW when a conversion is started, and remains LOW until the conversion is completed and the data is latched into the on-chip shift register.", 18 PWRD (in) "Power-Down Input. When set to a logic HIGH power consumption is reduced and conversions are inhibited. The conversion result from the previous conversion is stored in the onboard shift register.", 19 VANA (power) "Analog Power Supply. Nominally 5 V.", 20 VDIG (power) "Digital Power Supply. Nominally 5 V."

## AD977AARS
designator U?
Single 16-Bit BiCMOS Analog-to-Digital Converter with Serial Interface, 200KSPS, -40 to +85 degC, RS-28, Tube; Generic Part Number: AD977A; Manufacturer: Analog Devices; PartNumber: AD977AARS; Resolution (Bits): 16; Channels: 1; Throughput Rate (SPS): 200K; Interface: Ser; DatasheetVersion: Rev.D; PackageVersion: 060106-A; PackageReference: RS-28; PackageDescription: 28-Lead Shrink Small Outline Package [SSOP]; Supplier 1: Digi-Key; Supplier Part Number 1: AD977AARS-ND; Supplier 2: Mouser; Supplier Part Number 2: 584-AD977AARS; RoHS: N; Packing: Tube; Mounting Technology: Surface Mount; Code_JEDEC: MO-150-AH; ComponentLink1Description: Manufacturer URL; ComponentLink1URL: http://www.analog.com/en/index.html; ComponentLink2Description: Datasheet; ComponentLink2URL: http://www.analog.com/static/imported-files/data_sheets/AD977_977A.pdf; ComponentLink3Description: Package Specification; ComponentLink3URL: http://www.analog.com/static/imported-files/packages/32122249223724RS_28.pdf; ComponentLink4Description: Product URL; ComponentLink4URL: http://www.analog.com/en/analog-to-digital-converters/ad-converters/ad977a/products/product.html
footprint RS-28_N (SOP, 28-Leads, Body 10.2x5.3mm, Pitch 0.65mm, IPC Medium Density)
footprint RS-28_L (SOP, 28-Leads, Body 10.2x5.3mm, Pitch 0.65mm, IPC High Density)
footprint RS-28_M (SOP, 28-Leads, Body 10.2x5.3mm, Pitch 0.65mm, IPC Low Density)
pins: 1 R1IN (in) "Analog Input. Refer to Table I, Table II for input range configuration.", 2 AGND1 (power) "Analog Ground. Used as the ground reference point for the REF pin.", 3 R2IN (in) "Analog Input. Refer to Table I, Table II for input range configuration.", 4 R3IN (in) "Analog Input. Refer to Table I, Table II for input range configuration.", 5 NC "No connect.", 6 CAP (out) "Reference buffer output. Connect a 2.2 uF tantalum capacitor between CAP and Analog Ground.", 7 REF (io) "Reference Input/Output. The internal 2.5 V reference is available at this pin. Alternatively an external reference can be used to override the internal reference. In either case, connect a 2.2 uF tantalum capacitor between (See Datasheet)", 8 NC "No connect.", 9 AGND2 (power) "Analog Ground.", 10 NC "No connect.", 11 NC "No connect.", 12 SB/~{BTC} (in) "This digital input is used to select the data format of a conversion result. With SB/B\T\C\ tied LOW, conversion data will be output in Binary Two’s Complement format. With SB/B\T\C\ connected to a logic HIGH, data is output (See Datasheet)", 13 EXT/~{INT} (in) "Digital select input for choosing the internal or an external data clock. With EXT/I\N\T\ tied LOW, after initiating a conversion, 16 DATACLK pulses transmit the previous conversion result as shown in Figure 3. With (See Datasheet)", 14 DGND (power) "Digital Ground.", 15 SYNC (out) "Digital output frame synchronization for use with an external data clock (EXT/I\N\T\ = Logic HIGH). When a read sequence is initiated, a pulse one DATACLK period wide is output synchronous to the external data clock.", 16 DATACLK (io) "Serial data clock input or output, dependent upon the logic state of the EXT/I\N\T\ pin. When using the internal data clock (EXT/I\N\T\ = Logic LOW), a conversion start sequence will initiate transmission of 16 DATACLK (See Datasheet)", 17 DATA (out) "The serial data output is synchronized to DATACLK. Conversion results are stored in an on-chip register. The AD977 provides the conversion result, MSB first, from its internal shift register. The DATA format is determined by (See Datasheet)", 18 NC "No connect.", 19 TAG (in) "This digital input can be used with an external data clock, (EXT/I\N\T\ = Logic HIGH) to daisy chain the conversion results from two or more AD977s onto a single DATA line. The digital data level on TAG is output on DATA (See Datasheet)", 20 NC "No connect.", 21 R/~{C} (in) "Read/Convert Input. Is used to control the conversion and read modes of the AD977. With C\S\ LOW; a falling edge on R/C\ holds the analog input signal internally and starts a conversion, a rising edge enables the (See Datasheet)", 22 NC "No connect.", 23 NC "No connect.", 24 ~{CS} (in) "Chip Select Input. With R/C\ LOW, a falling edge on C\S\ will initiate a conversion. With R/C\ HIGH, a falling edge on C\S\ will enable the serial data output sequence.", 25 ~{BUSY} (out) "Busy Output. Goes LOW when a conversion is started, and remains LOW until the conversion is completed and the data is latched into the on-chip shift register.", 26 PWRD (in) "Power-Down Input. When set to a logic HIGH power consumption is reduced and conversions are inhibited. The conversion result from the previous conversion is stored in the onboard shift register.", 27 VANA (power) "Analog Power Supply. Nominally 5 V.", 28 VDIG (power) "Digital Power Supply. Nominally 5 V."

## AD977AARSZ
designator U?
Single 16-Bit BiCMOS Analog-to-Digital Converter with Serial Interface, 200KSPS, -40 to +85 degC, RS-28, Pb-Free, Tube; Generic Part Number: AD977A; Manufacturer: Analog Devices; PartNumber: AD977AARSZ; Resolution (Bits): 16; Channels: 1; Throughput Rate (SPS): 200K; Interface: Ser; DatasheetVersion: Rev.D; PackageVersion: 060106-A; PackageReference: RS-28; PackageDescription: 28-Lead Shrink Small Outline Package [SSOP]; Supplier 1: Digi-Key; Supplier Part Number 1: AD977AARSZ-ND; Supplier 2: Farnell; Supplier Part Number 2: 1438571; Supplier 3: Newark; Supplier Part Number 3: 15P1068; Supplier 4: Mouser; Supplier Part Number 4: 584-AD977AARSZ; RoHS: Y; Packing: Tube; Mounting Technology: Surface Mount; Code_JEDEC: MO-150-AH; ComponentLink1Description: Manufacturer URL; ComponentLink1URL: http://www.analog.com/en/index.html; ComponentLink2Description: Datasheet; ComponentLink2URL: http://www.analog.com/static/imported-files/data_sheets/AD977_977A.pdf; ComponentLink3Description: Package Specification; ComponentLink3URL: http://www.analog.com/static/imported-files/packages/32122249223724RS_28.pdf; ComponentLink4Description: Product URL; ComponentLink4URL: http://www.analog.com/en/analog-to-digital-converters/ad-converters/ad977a/products/product.html
footprint RS-28_N (SOP, 28-Leads, Body 10.2x5.3mm, Pitch 0.65mm, IPC Medium Density)
footprint RS-28_L (SOP, 28-Leads, Body 10.2x5.3mm, Pitch 0.65mm, IPC High Density)
footprint RS-28_M (SOP, 28-Leads, Body 10.2x5.3mm, Pitch 0.65mm, IPC Low Density)
pins: 1 R1IN (in) "Analog Input. Refer to Table I, Table II for input range configuration.", 2 AGND1 (power) "Analog Ground. Used as the ground reference point for the REF pin.", 3 R2IN (in) "Analog Input. Refer to Table I, Table II for input range configuration.", 4 R3IN (in) "Analog Input. Refer to Table I, Table II for input range configuration.", 5 NC "No connect.", 6 CAP (out) "Reference buffer output. Connect a 2.2 uF tantalum capacitor between CAP and Analog Ground.", 7 REF (io) "Reference Input/Output. The internal 2.5 V reference is available at this pin. Alternatively an external reference can be used to override the internal reference. In either case, connect a 2.2 uF tantalum capacitor between (See Datasheet)", 8 NC "No connect.", 9 AGND2 (power) "Analog Ground.", 10 NC "No connect.", 11 NC "No connect.", 12 SB/~{BTC} (in) "This digital input is used to select the data format of a conversion result. With SB/B\T\C\ tied LOW, conversion data will be output in Binary Two’s Complement format. With SB/B\T\C\ connected to a logic HIGH, data is output (See Datasheet)", 13 EXT/~{INT} (in) "Digital select input for choosing the internal or an external data clock. With EXT/I\N\T\ tied LOW, after initiating a conversion, 16 DATACLK pulses transmit the previous conversion result as shown in Figure 3. With (See Datasheet)", 14 DGND (power) "Digital Ground.", 15 SYNC (out) "Digital output frame synchronization for use with an external data clock (EXT/I\N\T\ = Logic HIGH). When a read sequence is initiated, a pulse one DATACLK period wide is output synchronous to the external data clock.", 16 DATACLK (io) "Serial data clock input or output, dependent upon the logic state of the EXT/I\N\T\ pin. When using the internal data clock (EXT/I\N\T\ = Logic LOW), a conversion start sequence will initiate transmission of 16 DATACLK (See Datasheet)", 17 DATA (out) "The serial data output is synchronized to DATACLK. Conversion results are stored in an on-chip register. The AD977 provides the conversion result, MSB first, from its internal shift register. The DATA format is determined by (See Datasheet)", 18 NC "No connect.", 19 TAG (in) "This digital input can be used with an external data clock, (EXT/I\N\T\ = Logic HIGH) to daisy chain the conversion results from two or more AD977s onto a single DATA line. The digital data level on TAG is output on DATA (See Datasheet)", 20 NC "No connect.", 21 R/~{C} (in) "Read/Convert Input. Is used to control the conversion and read modes of the AD977. With C\S\ LOW; a falling edge on R/C\ holds the analog input signal internally and starts a conversion, a rising edge enables the (See Datasheet)", 22 NC "No connect.", 23 NC "No connect.", 24 ~{CS} (in) "Chip Select Input. With R/C\ LOW, a falling edge on C\S\ will initiate a conversion. With R/C\ HIGH, a falling edge on C\S\ will enable the serial data output sequence.", 25 ~{BUSY} (out) "Busy Output. Goes LOW when a conversion is started, and remains LOW until the conversion is completed and the data is latched into the on-chip shift register.", 26 PWRD (in) "Power-Down Input. When set to a logic HIGH power consumption is reduced and conversions are inhibited. The conversion result from the previous conversion is stored in the onboard shift register.", 27 VANA (power) "Analog Power Supply. Nominally 5 V.", 28 VDIG (power) "Digital Power Supply. Nominally 5 V."